# EAGLE library part 74VHC14MTC (library Fairchild_By_element14_Batch_1)
HEX SCHMITT INVERTER
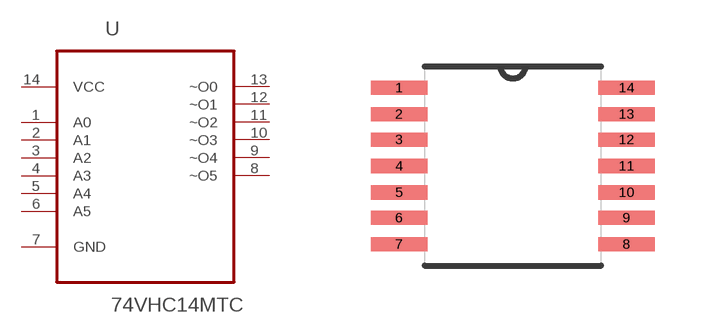
[diagram p129: symbol with the pads of SOP65P640X120-14N; footprint SOP65P640X120-14N]

Designator prefix U

## 74VHC14MTC (MPN: 74VHC14MTC; OC_FARNELL: 1607748; OC_NEWARK: 78K6372; PACKAGE: TSSOP-14; SUPPLIER: FAIRCHILD)  [SOP65P640X120-14N]
1  A0  in
2  A1  in
3  A2  in
4  A3  in
5  A4  in
6  A5  in
7  GND  pas
8  ~O5  out
9  ~O4  out
10  ~O3  out
11  ~O2  out
12  ~O1  out
13  ~O0  out
14  VCC  pwr

## Footprint SOP65P640X120-14N (pad centres in mm)
smd 1.422 x 0.356: 1 -2.845,1.956; 2 -2.845,1.295; 3 -2.845,0.66; 4 -2.845,0; 5 -2.845,-0.66; 6 -2.845,-1.295; 7 -2.845,-1.956; 8 2.845,-1.956; 9 2.845,-1.295; 10 2.845,-0.66; 11 2.845,0; 12 2.845,0.66; 13 2.845,1.295; 14 2.845,1.956